# Altium footprint library LED_SMD.PcbLib: 82 footprints (part 1 of 6)
Each footprint in its own frame and in the unit in brackets; x right, y up, seen from the top. Pads: shape width x height; smd on the part's side, far side on the other; paste and mask are expansions set on the pad; w line width, h text height; cw(c..) or ccw(c..) is an arc to the next point about the centre after c.
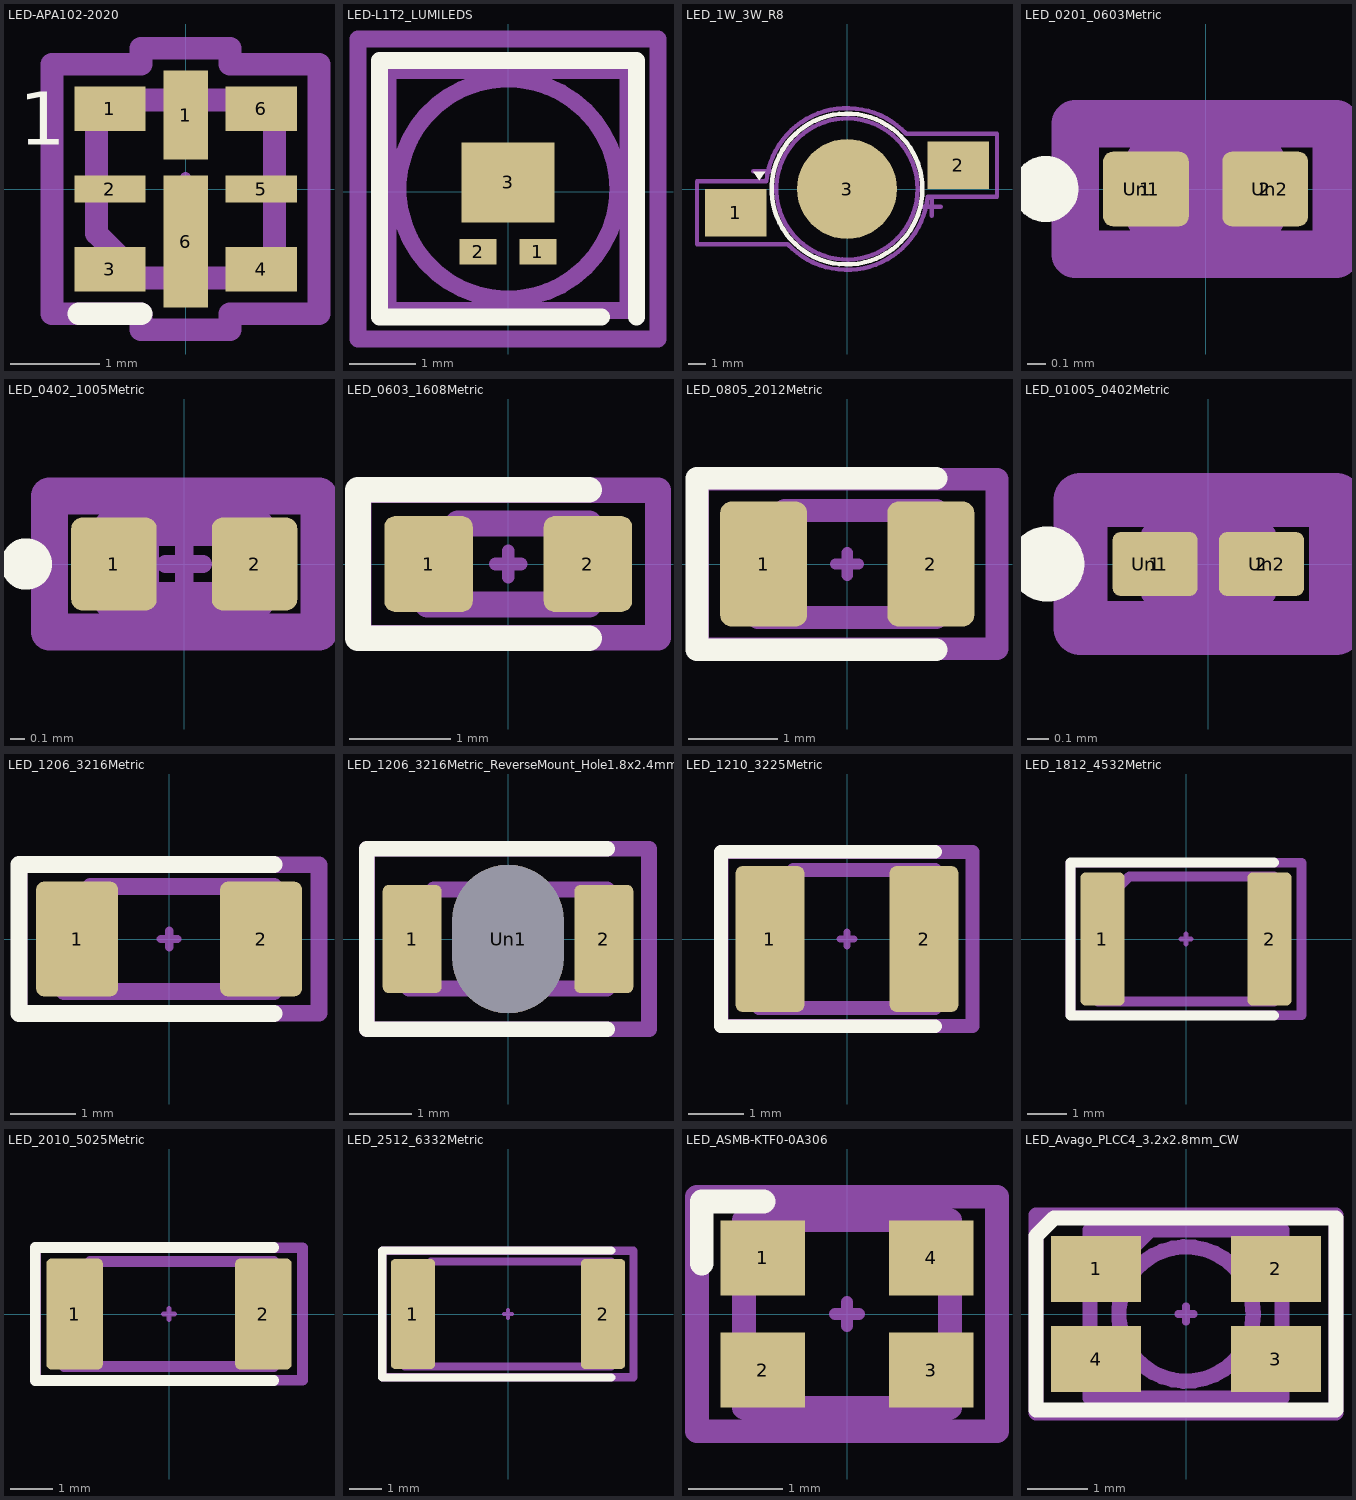
[diagram p0: the footprints below, top view; thin cyan lines are the x and y axes]

## LED-APA102-2020 [mm] "LED-APA102-2020"
pads (8):
  rect 0.8x0.5 smd: 1(-0.85,0.9) 3(-0.85,-0.9) 4(0.85,-0.9) 6(0.85,0.9)
  rect 0.5x1 smd: 1(0,0.83)
  rect 0.8x0.3 smd: 2(-0.85,0) 5(0.85,0)
  rect 0.5x1.48 smd: 6(0,-0.59)
F.SilkS:
  lines w0.254: -1.2,-1.4 -0.5,-1.4
  text "1" at -1.871,0.5 h0.6
Top Component Center:
  lines w0.127: -0.127,0 0.127,0 ; 0,-0.127 0,0.127
Top Assembly:
  lines w0.254: -1,-0.5 -1,1 1,1 1,-1 -0.5,-1 -1,-0.5
Top Courtyard:
  lines w0.254: -1.5,-1.4 -1.5,1.4 -0.5,1.4 -0.5,1.58 0.5,1.58 0.5,1.4 1.5,1.4 1.5,-1.4 0.5,-1.4 0.5,-1.58 -0.5,-1.58 -0.5,-1.4 -1.5,-1.4
Top Designator:
  text ".Designator" at 0.226,-2.253 h1

## LED-L1T2_LUMILEDS [mm] "LED-L1T2_LUMILEDS"
pads (3):
  rect 0.55x0.38 smd: 1(0.45,-0.901) 2(-0.45,-0.901)
  rect 1.4x1.2 smd: 3(0,0.139)
F.SilkS:
  lines w0.254: 1.4,-1.881 -1.93,-1.881 -1.93,1.969 1.93,1.969 1.93,-1.881
Top Component Center:
  lines w0.127: -0.127,0 0.127,0 ; 0,-0.127 0,0.127
Top Assembly:
  circle w0.254: c0,0.039 r1.65
  lines w0.254: -1.8,-1.781 1.8,-1.781 1.8,1.819 -1.8,1.819 -1.8,-1.781
Top Courtyard:
  lines w0.254: -2.25,-2.211 2.25,-2.211 2.25,2.289 -2.25,2.289 -2.25,-2.211
Top Designator:
  text ".Designator" at -3.432,-0.345 h1.52

## LED_1W_3W_R8 [mm] "LED_1W_3W_R8"
pads (3):
  rect 3.5x2.7 smd: 1(-6.35,-1.35) 2(6.35,1.35)
  round 5.7 smd: 3(0,0)
F.SilkS:
  circle w0.254: c0,0 r4.3
  region: -5,0.5 -5.34,0.97 -4.66,0.97
Top Component Center:
  lines w0.127: -0.127,0 0.127,0 ; 0,-0.127 0,0.127
Top Assembly:
  circle w0.254: c0,0 r4.025
  lines w0.254: -5.334,1.016 -4.318,1.016 ; -2.54,0 -1.27,0 ; -1.27,-1.27 -1.27,1.27 ; 2.54,0 1.27,0 1.27,-1.27 ; 4.318,-1.016 5.334,-1.016 ; 4.826,-1.524 4.826,-0.508 ; -1.27,0 1.27,1.27 1.27,-1.27 ; -1.27,0 1.27,-1.27
Top Courtyard:
  lines w0.254: -3.37,-3.15 -8.55,-3.15 -8.55,0.45 -4.59,0.45 cw(c0,0) 3.369,3.149 ; -3.369,-3.149 ccw(c0,0) 4.59,-0.45 8.55,-0.45 8.55,3.15 3.37,3.15
Top Designator:
  text ".Designator" at -3.432,-0.345 h1.52

## LED_0201_0603Metric [mm] "LED_0201_0603Metric"
pads (4):
  rrect25% 0.46x0.4 smd: 1(-0.32,0) 2(0.32,0)
  rrect25% 0.318x0.36 on Top Paste: Un1(-0.345,0) Un2(0.345,0)
F.SilkS:
  circle w0.254: c-0.86,0 r0.05
Top Component Center:
  lines w0.127: -0.127,0 0.127,0 ; 0,-0.127 0,0.127
Top Assembly:
  lines w0.254: -0.2,-0.15 -0.2,0.15 ; -0.1,-0.15 -0.1,0.15 ; -0.3,-0.15 0.3,-0.15 0.3,0.15 -0.3,0.15 -0.3,-0.15
Top Courtyard:
  lines w0.254: -0.7,-0.35 0.7,-0.35 0.7,0.35 -0.7,0.35 -0.7,-0.35
Top Designator:
  text ".Designator" at -1.127,-0.113 h0.5
3D body "LED_0201_0603Metric.step": height 0.2, standoff 0, extent -0.325,-0.175 0.325,0.175
3D body "LED_0201_0603Metric.step": height 0.2, standoff 0, extent -0.325,-0.175 0.325,0.175

## LED_0402_1005Metric [mm] "LED_0402_1005Metric"
pads (2):
  rrect25% 0.59x0.64 smd: 1(-0.485,0) 2(0.485,0)
F.SilkS:
  circle w0.254: c-1.09,0 r0.05
Top Component Center:
  lines w0.127: -0.127,0 0.127,0 ; 0,-0.127 0,0.127
Top Assembly:
  lines w0.254: -0.4,-0.25 -0.4,0.25 ; -0.3,-0.25 -0.3,0.25 ; -0.5,-0.25 -0.5,0.25 0.5,0.25 0.5,-0.25 -0.5,-0.25
Top Courtyard:
  lines w0.254: -0.93,-0.47 -0.93,0.47 0.93,0.47 0.93,-0.47 -0.93,-0.47
Top Designator:
  text ".Designator" at -1.127,-0.113 h0.5
3D body "LED_0402_1005Metric.step": height 0.5, standoff 0, extent -0.5,-0.25 0.5,0.25
3D body "LED_0402_1005Metric.step": height 0.5, standoff 0, extent -0.5,-0.25 0.5,0.25

## LED_0603_1608Metric [mm] "LED_0603_1608Metric"
pads (2):
  rrect25% 0.875x0.95 smd: 1(-0.787,0) 2(0.787,0)
F.SilkS:
  lines w0.254: 0.8,-0.735 -1.485,-0.735 -1.485,0.735 0.8,0.735
Top Component Center:
  lines w0.127: -0.127,0 0.127,0 ; 0,-0.127 0,0.127
Top Assembly:
  lines w0.254: -0.8,-0.4 0.8,-0.4 0.8,0.4 -0.5,0.4 -0.8,0.1 -0.8,-0.4
Top Courtyard:
  lines w0.254: -1.48,-0.73 1.48,-0.73 1.48,0.73 -1.48,0.73 -1.48,-0.73
Top Designator:
  text ".Designator" at -1.69,-0.17 h0.75
3D body "LED_0603_1608Metric.step": height 1.1, standoff 0, extent -0.8,-0.4 0.8,0.4
3D body "LED_0603_1608Metric.step": height 1.1, standoff 0, extent -0.8,-0.4 0.8,0.4

## LED_0805_2012Metric [mm] "LED_0805_2012Metric"
pads (2):
  rrect25% 0.975x1.4 smd: 1(-0.937,0) 2(0.937,0)
F.SilkS:
  lines w0.254: 1,-0.96 -1.685,-0.96 -1.685,0.96 1,0.96
Top Component Center:
  lines w0.127: -0.127,0 0.127,0 ; 0,-0.127 0,0.127
Top Assembly:
  lines w0.254: -1,-0.6 -1,0.3 -0.7,0.6 1,0.6 1,-0.6 -1,-0.6
Top Courtyard:
  lines w0.254: -1.68,-0.95 -1.68,0.95 1.68,0.95 1.68,-0.95 -1.68,-0.95
Top Designator:
  text ".Designator" at -1.69,-0.17 h0.75
3D body "LED_0805_2012Metric.step": height 1.1, standoff 0, extent -1,-0.625 1,0.625
3D body "LED_0805_2012Metric.step": height 1.1, standoff 0, extent -1,-0.625 1,0.625

## LED_01005_0402Metric [mm] "LED_01005_0402Metric"
pads (4):
  rrect25% 0.4x0.3 smd: 1(-0.25,0) 2(0.25,0)
  rrect25% 0.27x0.27 on Top Paste: Un1(-0.275,0) Un2(0.275,0)
F.SilkS:
  circle w0.254: c-0.76,0 r0.05
Top Component Center:
  lines w0.127: -0.127,0 0.127,0 ; 0,-0.127 0,0.127
Top Assembly:
  lines w0.254: -0.1,-0.1 -0.1,0.1 ; -0.2,-0.1 -0.2,0.1 0.2,0.1 0.2,-0.1 -0.2,-0.1
Top Courtyard:
  lines w0.254: -0.6,-0.3 -0.6,0.3 0.6,0.3 0.6,-0.3 -0.6,-0.3
Top Designator:
  text ".Designator" at -1.127,-0.113 h0.5
3D body "LED_01005_0402Metric.step": height 0.3, standoff 0, extent -0.2,-0.1 0.2,0.1
3D body "LED_01005_0402Metric.step": height 0.3, standoff 0, extent -0.2,-0.1 0.2,0.1

## LED_1206_3216Metric [mm] "LED_1206_3216Metric"
pads (2):
  rrect20% 1.25x1.75 smd: 1(-1.4,0) 2(1.4,0)
F.SilkS:
  lines w0.254: 1.6,-1.135 -2.285,-1.135 -2.285,1.135 1.6,1.135
Top Component Center:
  lines w0.127: -0.127,0 0.127,0 ; 0,-0.127 0,0.127
Top Assembly:
  lines w0.254: -1.6,-0.8 -1.6,0.4 -1.2,0.8 1.6,0.8 1.6,-0.8 -1.6,-0.8
Top Courtyard:
  lines w0.254: -2.28,-1.13 -2.28,1.13 2.28,1.13 2.28,-1.13 -2.28,-1.13
Top Designator:
  text ".Designator" at -2.253,-0.226 h1
3D body "LED_1206_3216Metric.step": height 1.1, standoff 0, extent -1.6,-0.8 1.6,0.8
3D body "LED_1206_3216Metric.step": height 1.1, standoff 0, extent -1.6,-0.8 1.6,0.8

## LED_1206_3216Metric_ReverseMount_Hole1.8x2.4mm [mm] "LED_1206_3216Metric_ReverseMount_Hole1.8x2.4mm"
pads (3):
  rrect20% 0.95x1.75 smd: 1(-1.55,0) 2(1.55,0)
  rrect100% 1.8x2.4 hole 2.4 slot 1.8 at 0 deg: Un1(0,0)
F.SilkS:
  lines w0.254: 1.6,-1.46 -2.285,-1.46 -2.285,1.46 1.6,1.46
Top Component Center:
  lines w0.127: -0.127,0 0.127,0 ; 0,-0.127 0,0.127
Top Assembly:
  lines w0.254: -1.6,-0.8 -1.6,0.4 -1.2,0.8 1.6,0.8 1.6,-0.8 -1.6,-0.8
Top Courtyard:
  lines w0.254: -2.28,-1.46 -2.28,1.46 2.28,1.46 2.28,-1.46 -2.28,-1.46
Top Designator:
  text ".Designator" at -2.253,-0.226 h1

## LED_1210_3225Metric [mm] "LED_1210_3225Metric"
pads (2):
  rrect20% 1.25x2.65 smd: 1(-1.4,0) 2(1.4,0)
F.SilkS:
  lines w0.254: 1.6,-1.585 -2.285,-1.585 -2.285,1.585 1.6,1.585
Top Component Center:
  lines w0.127: -0.127,0 0.127,0 ; 0,-0.127 0,0.127
Top Assembly:
  lines w0.254: -1.6,-1.25 -1.6,0.625 -0.975,1.25 1.6,1.25 1.6,-1.25 -1.6,-1.25
Top Courtyard:
  lines w0.254: -2.28,-1.58 -2.28,1.58 2.28,1.58 2.28,-1.58 -2.28,-1.58
Top Designator:
  text ".Designator" at -2.253,-0.226 h1
3D body "LED_1210_3225Metric.step": height 1.1, standoff 0, extent -1.6,-1.25 1.6,1.25
3D body "LED_1210_3225Metric.step": height 1.1, standoff 0, extent -1.6,-1.25 1.6,1.25

## LED_1812_4532Metric [mm] "LED_1812_4532Metric"
pads (2):
  rrect22% 1.125x3.4 smd: 1(-2.137,0) 2(2.137,0)
F.SilkS:
  lines w0.254: 2.25,-1.96 -2.96,-1.96 -2.96,1.96 2.25,1.96
Top Component Center:
  lines w0.127: -0.127,0 0.127,0 ; 0,-0.127 0,0.127
Top Assembly:
  lines w0.254: -2.25,-1.6 -2.25,0.8 -1.45,1.6 2.25,1.6 2.25,-1.6 -2.25,-1.6
Top Courtyard:
  lines w0.254: -2.95,-1.95 -2.95,1.95 2.95,1.95 2.95,-1.95 -2.95,-1.95
Top Designator:
  text ".Designator" at -3.38,-0.339 h1.5
3D body "LED_1812_4532Metric.step": height 1.5, standoff 0, extent -2.25,-1.6 2.25,1.6
3D body "LED_1812_4532Metric.step": height 1.5, standoff 0, extent -2.25,-1.6 2.25,1.6

## LED_2010_5025Metric [mm] "LED_2010_5025Metric"
pads (2):
  rrect19% 1.35x2.65 smd: 1(-2.25,0) 2(2.25,0)
F.SilkS:
  lines w0.254: 2.5,-1.585 -3.185,-1.585 -3.185,1.585 2.5,1.585
Top Component Center:
  lines w0.127: -0.127,0 0.127,0 ; 0,-0.127 0,0.127
Top Assembly:
  lines w0.254: -2.5,-1.25 2.5,-1.25 2.5,1.25 -1.875,1.25 -2.5,0.625 -2.5,-1.25
Top Courtyard:
  lines w0.254: -3.18,-1.58 3.18,-1.58 3.18,1.58 -3.18,1.58 -3.18,-1.58
Top Designator:
  text ".Designator" at -3.38,-0.339 h1.5
3D body "LED_2010_5025Metric.step": height 1.5, standoff 0, extent -2.5,-1.25 2.5,1.25
3D body "LED_2010_5025Metric.step": height 1.5, standoff 0, extent -2.5,-1.25 2.5,1.25

## LED_2512_6332Metric [mm] "LED_2512_6332Metric"
pads (2):
  rrect19% 1.35x3.35 smd: 1(-2.9,0) 2(2.9,0)
F.SilkS:
  lines w0.254: 3.15,-1.935 -3.835,-1.935 -3.835,1.935 3.15,1.935
Top Component Center:
  lines w0.127: -0.127,0 0.127,0 ; 0,-0.127 0,0.127
Top Assembly:
  lines w0.254: -3.15,-1.6 -3.15,0.8 -2.35,1.6 3.15,1.6 3.15,-1.6 -3.15,-1.6
Top Courtyard:
  lines w0.254: -3.83,-1.93 -3.83,1.93 3.83,1.93 3.83,-1.93 -3.83,-1.93
Top Designator:
  text ".Designator" at -3.432,-0.345 h1.52
3D body "LED_2512_6332Metric.step": height 2, standoff 0, extent -3.15,-1.6 3.15,1.6
3D body "LED_2512_6332Metric.step": height 2, standoff 0, extent -3.15,-1.6 3.15,1.6

## LED_ASMB-KTF0-0A306 [mm] "LED_ASMB-KTF0-0A306"
pads (4):
  rect 0.9x0.8 smd: 1(-0.9,0.6) 2(-0.9,-0.6) 3(0.9,-0.6) 4(0.9,0.6)
F.SilkS:
  lines w0.254: -1.55,0.54 -1.55,1.2 -0.89,1.2
Top Component Center:
  lines w0.127: -0.127,0 0.127,0 ; 0,-0.127 0,0.127
Top Assembly:
  lines w0.254: -1.1,0.5 -0.6,1 ; -1.1,-1 1.1,-1 1.1,1 -1.1,1 -1.1,-1
Top Courtyard:
  lines w0.254: -1.6,-1.25 1.6,-1.25 1.6,1.25 -1.6,1.25 -1.6,-1.25
Top Designator:
  text ".Designator" at -1.69,-0.17 h0.75

## LED_Avago_PLCC4_3.2x2.8mm_CW [mm]
pads (4):
  rect 1.5x1.1 smd: 1(-1.5,0.75) 2(1.5,0.75) 3(1.5,-0.75) 4(-1.5,-0.75)
F.SilkS:
  lines w0.254: -2.5,-1.6 -2.5,1.3 -2.2,1.6 2.5,1.6 2.5,-1.6 -2.5,-1.6
Top Component Center:
  lines w0.127: -0.127,0 0.127,0 ; 0,-0.127 0,0.127
Top Assembly:
  circle w0.254: c0,0 r1.12
  lines w0.254: -1.6,0.4 -0.6,1.4 ; -1.6,-1.4 -1.6,1.4 1.6,1.4 1.6,-1.4 -1.6,-1.4
Top Courtyard:
  lines w0.254: -2.5,-1.65 -2.5,1.65 2.5,1.65 2.5,-1.65 -2.5,-1.65
Top Designator:
  text ".Designator" at -2.253,-0.226 h1